# Altium schematic symbol library Metal_Opera_Power.SchLib: 1 symbol
Pins are listed as number, name and electrical type; pins without a type are passive.

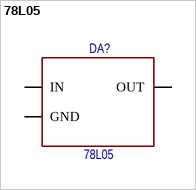
[diagram p0: symbol 78L05]

## 78L05
designator DA?
78L05, Стабилизатор напряжения +5В 0.1А; P/N: Микросхема питания 78L05, UMW; ComponentLink1Description: Chipdip; ComponentLink1URL: https://www.chipdip.ru/product/78l05-stabilizator-napryazheniya-5v-0.1a-sot-89-umw-9001231082
footprint IC: SOT 89
pins: 1 OUT, 2 GND, 3 IN